# Altium footprint library IC-BGA.PcbLib: 4 footprints
Each footprint in its own frame and in the unit in brackets; x right, y up, seen from the top. Pads: shape width x height; smd on the part's side, far side on the other; paste and mask are expansions set on the pad; w line width, h text height; cw(c..) or ccw(c..) is an arc to the next point about the centre after c.
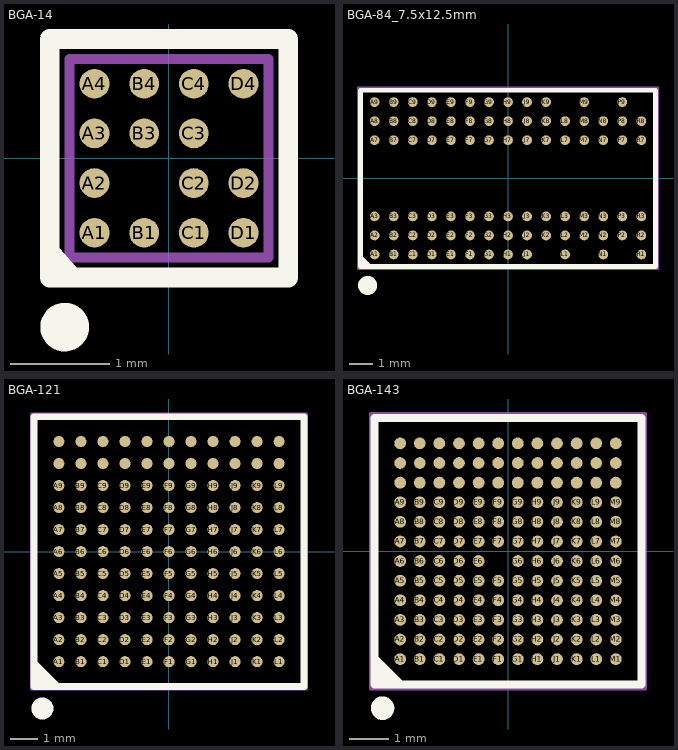
[diagram p0: the footprints below, top view; thin cyan lines are the x and y axes]

## BGA-14 [mm]
pads (14):
  round 0.3 smd mask+0.051: A1(-0.75,-0.75) A2(-0.75,-0.25) A3(-0.75,0.25) A4(-0.75,0.75) B1(-0.25,-0.75) B3(-0.25,0.25) B4(-0.25,0.75) C1(0.25,-0.75) C2(0.25,-0.25) C3(0.25,0.25) C4(0.25,0.75) D1(0.75,-0.75) D2(0.75,-0.25) D4(0.75,0.75)
Top Overlay:
  circle w0.25: c-1.05,-1.7 r0.12
  lines w0.2: -1.175,-0.975 -0.975,-1.2 ; -1.2,-1.2 1.2,-1.2 1.2,1.2 -1.2,1.2 -1.2,-1.2
Mechanical 13:
  lines w0.1: -1,-1 1,-1 1,1 -1,1 -1,-1

## BGA-84_7.5x12.5mm [mm]
pads (84):
  round 0.41 smd mask+0.051: A1(-5.6,-3.2) A2(-5.6,-2.4) A3(-5.6,-1.6) A7(-5.6,1.6) A8(-5.6,2.4) A9(-5.6,3.2) B1(-4.8,-3.2) B2(-4.8,-2.4) B3(-4.8,-1.6) B7(-4.8,1.6) B8(-4.8,2.4) B9(-4.8,3.2) C1(-4,-3.2) C2(-4,-2.4) C3(-4,-1.6) C7(-4,1.6) C8(-4,2.4) C9(-4,3.2) D1(-3.2,-3.2) D2(-3.2,-2.4) D3(-3.2,-1.6) D7(-3.2,1.6) D8(-3.2,2.4) D9(-3.2,3.2) E1(-2.4,-3.2) E2(-2.4,-2.4) E3(-2.4,-1.6) E7(-2.4,1.6) E8(-2.4,2.4) E9(-2.4,3.2) F1(-1.6,-3.2) F2(-1.6,-2.4) F3(-1.6,-1.6) F7(-1.6,1.6) F8(-1.6,2.4) F9(-1.6,3.2) G1(-0.8,-3.2) G2(-0.8,-2.4) G3(-0.8,-1.6) G7(-0.8,1.6) G8(-0.8,2.4) G9(-0.8,3.2) H1(0,-3.2) H2(0,-2.4) H3(0,-1.6) H7(0,1.6) H8(0,2.4) H9(0,3.2) J1(0.8,-3.2) J2(0.8,-2.4) J3(0.8,-1.6) J7(0.8,1.6) J8(0.8,2.4) J9(0.8,3.2) K2(1.6,-2.4) K3(1.6,-1.6) K7(1.6,1.6) K8(1.6,2.4) K9(1.6,3.2) L1(2.4,-3.2) L2(2.4,-2.4) L3(2.4,-1.6) L7(2.4,1.6) L8(2.4,2.4) M2(3.2,-2.4) M3(3.2,-1.6) M7(3.2,1.6) M8(3.2,2.4) M9(3.2,3.2) N1(4,-3.2) N2(4,-2.4) N3(4,-1.6) N7(4,1.6) N8(4,2.4) P2(4.8,-2.4) P3(4.8,-1.6) P7(4.8,1.6) P8(4.8,2.4) P9(4.8,3.2) R1(5.6,-3.2) R2(5.6,-2.4) R3(5.6,-1.6) R7(5.6,1.6) R8(5.6,2.4)
Top Overlay:
  circle w0.4: c-5.9,-4.5 r0.2
  region: -6.197,-3.697 -5.7,-3.697 -5.999,-3.399 -6.197,-3.2
  lines w0.2: -6.2,-3.7 6.2,-3.7 6.2,3.7 -6.2,3.7 -6.2,-3.7
Mechanical 13:
  lines w0.1: -6.3,-3.8 -6.3,3.8 6.3,3.8 6.3,-3.8 -6.3,-3.8

## BGA-121 [mm]
pads (121):
  round 0.4 smd mask+0.051: A1(-4,-4) A2(-4,-3.2) A3(-4,-2.4) A4(-4,-1.6) A5(-4,-0.8) A6(-4,0) A7(-4,0.8) A8(-4,1.6) A9(-4,2.4) A10(-4,3.2) A11(-4,4) B1(-3.2,-4) B2(-3.2,-3.2) B3(-3.2,-2.4) B4(-3.2,-1.6) B5(-3.2,-0.8) B6(-3.2,0) B7(-3.2,0.8) B8(-3.2,1.6) B9(-3.2,2.4) B10(-3.2,3.2) B11(-3.2,4) C1(-2.4,-4) C2(-2.4,-3.2) C3(-2.4,-2.4) C4(-2.4,-1.6) C5(-2.4,-0.8) C6(-2.4,0) C7(-2.4,0.8) C8(-2.4,1.6) C9(-2.4,2.4) C10(-2.4,3.2) C11(-2.4,4) D1(-1.6,-4) D2(-1.6,-3.2) D3(-1.6,-2.4) D4(-1.6,-1.6) D5(-1.6,-0.8) D6(-1.6,0) D7(-1.6,0.8) D8(-1.6,1.6) D9(-1.6,2.4) D10(-1.6,3.2) D11(-1.6,4) E1(-0.8,-4) E2(-0.8,-3.2) E3(-0.8,-2.4) E4(-0.8,-1.6) E5(-0.8,-0.8) E6(-0.8,0) E7(-0.8,0.8) E8(-0.8,1.6) E9(-0.8,2.4) E10(-0.8,3.2) E11(-0.8,4) F1(0,-4) F2(0,-3.2) F3(0,-2.4) F4(0,-1.6) F5(0,-0.8) F6(0,0) F7(0,0.8) F8(0,1.6) F9(0,2.4) F10(0,3.2) F11(0,4) G1(0.8,-4) G2(0.8,-3.2) G3(0.8,-2.4) G4(0.8,-1.6) G5(0.8,-0.8) G6(0.8,0) G7(0.8,0.8) G8(0.8,1.6) G9(0.8,2.4) G10(0.8,3.2) G11(0.8,4) H1(1.6,-4) H2(1.6,-3.2) H3(1.6,-2.4) H4(1.6,-1.6) H5(1.6,-0.8) H6(1.6,0) H7(1.6,0.8) H8(1.6,1.6) H9(1.6,2.4) H10(1.6,3.2) H11(1.6,4) J1(2.4,-4) J2(2.4,-3.2) J3(2.4,-2.4) J4(2.4,-1.6) J5(2.4,-0.8) J6(2.4,0) J7(2.4,0.8) J8(2.4,1.6) J9(2.4,2.4) J10(2.4,3.2) J11(2.4,4) K1(3.2,-4) K2(3.2,-3.2) K3(3.2,-2.4) K4(3.2,-1.6) K5(3.2,-0.8) K6(3.2,0) K7(3.2,0.8) K8(3.2,1.6) K9(3.2,2.4) K10(3.2,3.2) K11(3.2,4) L1(4,-4) L2(4,-3.2) L3(4,-2.4) L4(4,-1.6) L5(4,-0.8) L6(4,0) L7(4,0.8) L8(4,1.6) L9(4,2.4) L10(4,3.2) L11(4,4)
Top Overlay:
  circle w0.4: c-4.6,-5.7 r0.2
  region: -4.868,-4.863 -3.937,-4.863 -4.863,-3.937 -4.868,-3.937
  lines w0.254: -4.9,-4.9 -4.9,4.9 4.9,4.9 4.9,-4.9 -4.9,-4.9
Mechanical 13:
  lines w0.1: -5,-5 5,-5 5,5 -5,5 -5,-5

## BGA-143 [mm]
pads (143):
  round 0.3 smd mask+0.051: A1(-2.75,-2.75) A2(-2.75,-2.25) A3(-2.75,-1.75) A4(-2.75,-1.25) A5(-2.75,-0.75) A6(-2.75,-0.25) A7(-2.75,0.25) A8(-2.75,0.75) A9(-2.75,1.25) A10(-2.75,1.75) A11(-2.75,2.25) A12(-2.75,2.75) B1(-2.25,-2.75) B2(-2.25,-2.25) B3(-2.25,-1.75) B4(-2.25,-1.25) B5(-2.25,-0.75) B6(-2.25,-0.25) B7(-2.25,0.25) B8(-2.25,0.75) B9(-2.25,1.25) B10(-2.25,1.75) B11(-2.25,2.25) B12(-2.25,2.75) C1(-1.75,-2.75) C2(-1.75,-2.25) C3(-1.75,-1.75) C4(-1.75,-1.25) C5(-1.75,-0.75) C6(-1.75,-0.25) C7(-1.75,0.25) C8(-1.75,0.75) C9(-1.75,1.25) C10(-1.75,1.75) C11(-1.75,2.25) C12(-1.75,2.75) D1(-1.25,-2.75) D2(-1.25,-2.25) D3(-1.25,-1.75) D4(-1.25,-1.25) D5(-1.25,-0.75) D6(-1.25,-0.25) D7(-1.25,0.25) D8(-1.25,0.75) D9(-1.25,1.25) D10(-1.25,1.75) D11(-1.25,2.25) D12(-1.25,2.75) E1(-0.75,-2.75) E2(-0.75,-2.25) E3(-0.75,-1.75) E4(-0.75,-1.25) E5(-0.75,-0.75) E6(-0.75,-0.25) E7(-0.75,0.25) E8(-0.75,0.75) E9(-0.75,1.25) E10(-0.75,1.75) E11(-0.75,2.25) E12(-0.75,2.75) F1(-0.25,-2.75) F2(-0.25,-2.25) F3(-0.25,-1.75) F4(-0.25,-1.25) F5(-0.25,-0.75) F7(-0.25,0.25) F8(-0.25,0.75) F9(-0.25,1.25) F10(-0.25,1.75) F11(-0.25,2.25) F12(-0.25,2.75) G1(0.25,-2.75) G2(0.25,-2.25) G3(0.25,-1.75) G4(0.25,-1.25) G5(0.25,-0.75) G6(0.25,-0.25) G7(0.25,0.25) G8(0.25,0.75) G9(0.25,1.25) G10(0.25,1.75) G11(0.25,2.25) G12(0.25,2.75) H1(0.75,-2.75) H2(0.75,-2.25) H3(0.75,-1.75) H4(0.75,-1.25) H5(0.75,-0.75) H6(0.75,-0.25) H7(0.75,0.25) H8(0.75,0.75) H9(0.75,1.25) H10(0.75,1.75) H11(0.75,2.25) H12(0.75,2.75) J1(1.25,-2.75) J2(1.25,-2.25) J3(1.25,-1.75) J4(1.25,-1.25) J5(1.25,-0.75) J6(1.25,-0.25) J7(1.25,0.25) J8(1.25,0.75) J9(1.25,1.25) J10(1.25,1.75) J11(1.25,2.25) J12(1.25,2.75) K1(1.75,-2.75) K2(1.75,-2.25) K3(1.75,-1.75) K4(1.75,-1.25) K5(1.75,-0.75) K6(1.75,-0.25) K7(1.75,0.25) K8(1.75,0.75) K9(1.75,1.25) K10(1.75,1.75) K11(1.75,2.25) K12(1.75,2.75) L1(2.25,-2.75) L2(2.25,-2.25) L3(2.25,-1.75) L4(2.25,-1.25) L5(2.25,-0.75) L6(2.25,-0.25) L7(2.25,0.25) L8(2.25,0.75) L9(2.25,1.25) L10(2.25,1.75) L11(2.25,2.25) L12(2.25,2.75) M1(2.75,-2.75) M2(2.75,-2.25) M3(2.75,-1.75) M4(2.75,-1.25) M5(2.75,-0.75) M6(2.75,-0.25) M7(2.75,0.25) M8(2.75,0.75) M9(2.75,1.25) M10(2.75,1.75) M11(2.75,2.25) M12(2.75,2.75)
Top Overlay:
  circle w0.3: c-3.2,-4 r0.15
  region: -3.45,-3.45 -2.55,-3.45 -2.75,-3.25 -3.45,-2.55
  lines w0.2: -3.4,-3.4 3.4,-3.4 3.4,3.4 -3.4,3.4 -3.4,-3.4
Mechanical 13:
  lines w0.1: -3.5,-3.5 -3.5,3.5 3.5,3.5 3.5,-3.5 -3.5,-3.5